# Altium footprint library TO_THD.PCBLIB: 47 footprints (part 1 of 3)
Each footprint in its own frame and in the unit in brackets; x right, y up, seen from the top. Pads: shape width x height; smd on the part's side, far side on the other; paste and mask are expansions set on the pad; w line width, h text height; cw(c..) or ccw(c..) is an arc to the next point about the centre after c.
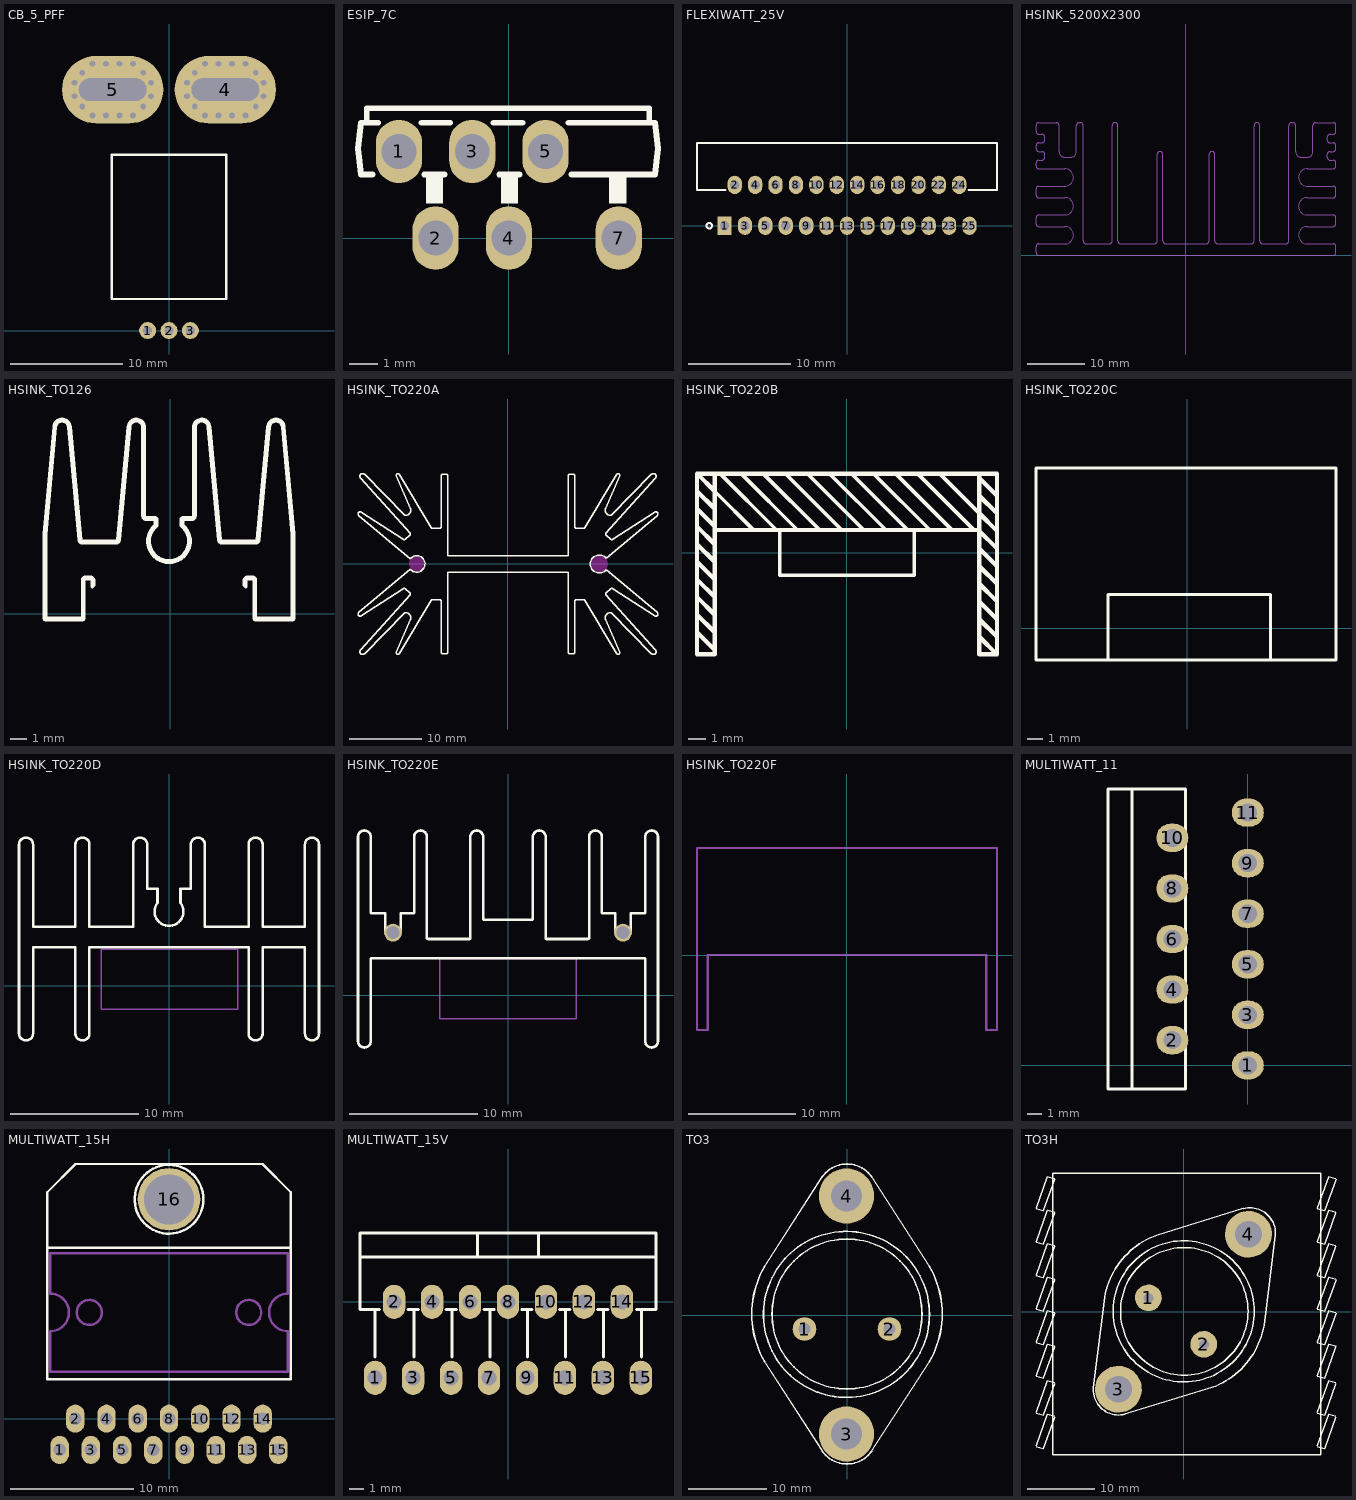
[diagram p0: the footprints below, top view; thin cyan lines are the x and y axes]

## CB_5_PFF [mm] "ACS752, ACS758"
height 7.5
pads (5):
  round 1.5 hole 0.8: 1(-1.9,0) 2(0,0) 3(1.9,0)
  oval 9x6 hole 2 slot 6 at 0 deg: 4(5,21.4) 5(-5,21.4)
via -2.3,19.9 diameter 0.8 hole 0.5
via -6.8,19.1 diameter 0.8 hole 0.5
via -3.2,19.1 diameter 0.8 hole 0.5
via -4.4,19.1 diameter 0.8 hole 0.5
via -5.6,19.1 diameter 0.8 hole 0.5
via -1.6,20.8 diameter 0.8 hole 0.5
via -8.4,20.8 diameter 0.8 hole 0.5
via -7.7,19.9 diameter 0.8 hole 0.5
via -7.7,22.9 diameter 0.8 hole 0.5
via -8.4,22 diameter 0.8 hole 0.5
via -1.6,22 diameter 0.8 hole 0.5
via -5.6,23.7 diameter 0.8 hole 0.5
via -4.4,23.7 diameter 0.8 hole 0.5
via -3.2,23.7 diameter 0.8 hole 0.5
via -6.8,23.7 diameter 0.8 hole 0.5
via -2.3,22.9 diameter 0.8 hole 0.5
via 7.7,22.9 diameter 0.8 hole 0.5
via 3.2,23.7 diameter 0.8 hole 0.5
via 6.8,23.7 diameter 0.8 hole 0.5
via 5.6,23.7 diameter 0.8 hole 0.5
via 4.4,23.7 diameter 0.8 hole 0.5
via 8.4,22 diameter 0.8 hole 0.5
via 1.6,22 diameter 0.8 hole 0.5
via 2.3,22.9 diameter 0.8 hole 0.5
via 2.3,19.9 diameter 0.8 hole 0.5
via 1.6,20.8 diameter 0.8 hole 0.5
via 8.4,20.8 diameter 0.8 hole 0.5
via 4.4,19.1 diameter 0.8 hole 0.5
via 5.6,19.1 diameter 0.8 hole 0.5
via 6.8,19.1 diameter 0.8 hole 0.5
via 3.2,19.1 diameter 0.8 hole 0.5
via 7.7,19.9 diameter 0.8 hole 0.5
TopOverlay:
  lines w0.2: -5.08,2.794 5.08,2.794 5.08,15.621 -5.08,15.621 -5.08,2.794
3D body "User Library-ACS758xCB-PFF.STEP": height 7, standoff -3.48, extent -7,-0.3 7,22.11

## ESIP_7C [mm] "eSIP-7C"
height 8.25
pads (6):
  oval 1.6x2.2 hole 1.2: 1(-3.81,3) 2(-2.54,0) 3(-1.27,3) 4(0,0) 5(1.27,3) 7(3.81,0)
TopOverlay:
  rectangle: -2.88,1.2 -2.28,2.232
  rectangle: -0.28,1.2 0.32,2.232
  rectangle: 3.47,1.2 4.07,2.232
  lines w0.2: -4.73,2.2 -5.13,2.2 -5.23,3.1 -5.13,4 -4.93,4 ; -4.53,4 -4.93,4 ; -3.03,4 -2.03,4 ; -2.93,2.2 -2.23,2.2 ; -0.53,4 0.47,4 ; -0.33,2.2 0.37,2.2 ; 2.07,4 4.87,4 ; 2.17,2.2 5.07,2.2 5.17,3.1 5.07,4 4.87,4 ; -4.93,4 -4.93,4.5 4.87,4.5 4.87,4
3D body "eSIP-7C.STEP": height 10.25, standoff -3.25, extent -5.13,-0.195 5.11,4.395

## FLEXIWATT_25V [mm] "FLEXIWATT25 straight pitch: 1mm 29.2x4.5mm"
height 22.5
pads (25):
  rect 1.4x1.8 hole 0.9: 1(-12,0)
  oval 1.4x1.8 hole 0.9: 2(-11,4) 3(-10,0) 4(-9,4) 5(-8,0) 6(-7,4) 7(-6,0) 8(-5,4) 9(-4,0) 10(-3,4) 11(-2,0) 12(-1,4) 13(0,0) 14(1,4) 15(2,0) 16(3,4) 17(4,0) 18(5,4) 19(6,0) 20(7,4) 21(8,0) 22(9,4) 23(10,0) 24(11,4) 25(12,0)
TopOverlay:
  circle w0.2: c-13.5,0 r0.27
  lines w0.2: -11.9,3.5 -14.7,3.5 -14.7,8.1 14.7,8.1 14.7,3.5 11.9,3.5
3D body "User Library-TDA7850-2.step": height 19.2, standoff -3.27, extent -14.615,-0.15 14.615,8.045

## HSINK_5200X2300 [mm]
Mechanical1:
  lines w0.2: -26,1.5 cw(c-25.5,1.5) -25.5,2 -21,2 ccw(c-21,3.5) -19.5,3.5 ccw(c-21,3.5) -21,5 -25.5,5 cw(c-25.5,5.5) -26,5.5 ; -26,1.6 -26,0.5 ccw(c-25.5,0.5) -25.5,0 25.5,0 ccw(c25.5,0.5) 26,0.5 26,1.6 ; -26,5.4 -26,6.5 cw(c-25.5,6.5) -25.5,7 -21,7 ccw(c-21,8.5) -19.5,8.5 ccw(c-21,8.5) -21,10 -25.5,10 cw(c-25.5,10.5) -26,10.5 ; -26,10.4 -26,11.5 cw(c-25.5,11.5) -25.5,12 -21,12 ccw(c-21,13.5) -19.5,13.5 ccw(c-21,13.5) -21,15 -25.5,15 cw(c-25.5,15.5) -26,15.5 -26,16 cw(c-25.5,16) -25.5,16.5 -25,16.5 ccw(c-25,17) -24.5,17 -24.5,17.5 ccw(c-25,17.5) -25,18 -25.5,18 cw(c-25.5,18.5) -26,18.5 -26,19 cw(c-25.5,19) -25.5,19.5 -25,19.5 ccw(c-25,20) -24.5,20 -24.5,20.5 ccw(c-25,20.5) -25,21 -25.5,21 cw(c-25.5,21.5) -26,21.5 -26,22.5 cw(c-25.5,22.5) -25.5,23 -22.5,23 cw(c-22.5,22.5) -22,22.5 -22,18 ccw(c-21,18) -21,17 -20,17 ccw(c-20,18) -19,18 -19,22.5 cw(c-18.5,22.5) -18.5,23 -18.3,23 cw(c-18.3,22.5) -17.8,22.5 -17.8,2.5 ccw(c-17.3,2.5) -17.3,2 -13.3,2 ccw(c-13.3,2.5) -12.8,2.5 -12.8,22.5 cw(c-12.3,22.5) -11.8,22.5 -11.8,2.5 ; 26,1.5 ccw(c25.5,1.5) 25.5,2 21,2 cw(c21,3.5) 19.5,3.5 cw(c21,3.5) 21,5 25.5,5 ccw(c25.5,5.5) 26,5.5 ; 26,5.4 26,6.5 ccw(c25.5,6.5) 25.5,7 21,7 cw(c21,8.5) 19.5,8.5 cw(c21,8.5) 21,10 25.5,10 ccw(c25.5,10.5) 26,10.5 ; 26,10.4 26,11.5 ccw(c25.5,11.5) 25.5,12 21,12 cw(c21,13.5) 19.5,13.5 cw(c21,13.5) 21,15 25.5,15 ccw(c25.5,15.5) 26,15.5 26,16 ccw(c25.5,16) 25.5,16.5 25,16.5 cw(c25,17) 24.5,17 24.5,17.5 cw(c25,17.5) 25,18 25.5,18 ccw(c25.5,18.5) 26,18.5 26,19 ccw(c25.5,19) 25.5,19.5 25,19.5 cw(c25,20) 24.5,20 24.5,20.5 cw(c25,20.5) 25,21 25.5,21 ccw(c25.5,21.5) 26,21.5 26,22.5 ccw(c25.5,22.5) 25.5,23 22.5,23 ccw(c22.5,22.5) 22,22.5 22,18 cw(c21,18) 21,17 20,17 cw(c20,18) 19,18 19,22.5 ccw(c18.5,22.5) 18.5,23 18.3,23 ccw(c18.3,22.5) 17.8,22.5 17.8,2.5 cw(c17.3,2.5) 17.3,2 13.3,2 cw(c13.3,2.5) 12.8,2.5 12.8,22.5 ccw(c12.3,22.5) 11.8,22.5 11.8,2.5 ; -11.8,2.5 ccw(c-11.3,2.5) -11.3,2 -5.5,2 ccw(c-5.5,2.5) -5,2.5 -5,17.5 cw(c-4.5,17.5) -4,17.5 -4,2.5 ; -11.8,2.5 -11.8,2.5 ; -4,2.5 ccw(c-3.5,2.5) -3.5,2 3.5,2 ccw(c3.5,2.5) 4,2.5 ; -4,2.5 -4,2.5 ; 4,2.5 4,17.5 cw(c4.5,17.5) 5,17.5 5,2.5 ccw(c5.5,2.5) 5.5,2 11.3,2 ccw(c11.3,2.5) 11.8,2.5 ; 4,2.5 4,2.5 ; 11.8,2.5 11.8,2.5
3D body: height 50, standoff 0, extent 0,0 26,23
3D body: height 50, standoff 0, extent -26,0 0,23

## HSINK_TO126 [mm] "HEATSINK TO-126"
TopOverlay:
  lines w0.2: -7.74,-0.268 ccw(c-7.64,-0.268) -7.64,-0.368 ; -7.74,-0.268 -7.74,4.882 ; -7.74,-0.268 -7.64,-0.268 ; -7.74,4.882 -7.64,4.877 ; -7.74,4.882 -7.133,11.438 ; -7.64,-0.368 -5.39,-0.368 ; -7.64,-0.368 -7.64,-0.268 ; -7.64,-0.268 -5.39,-0.268 ; -7.64,-0.268 -7.64,4.877 ; -7.64,4.877 -7.034,11.429 ; -7.133,11.438 cw(c-6.636,11.392) -6.138,11.438 ; -7.133,11.438 -7.034,11.429 ; -7.034,11.429 cw(c-6.636,11.392) -6.237,11.429 ; -6.237,11.429 -5.598,4.514 ; -6.237,11.429 -6.138,11.438 ; -6.138,11.438 -5.498,4.523 ; -5.598,4.514 ccw(c-5.399,4.532) -5.399,4.332 ; -5.598,4.514 -5.498,4.523 ; -5.498,4.523 ccw(c-5.399,4.532) -5.399,4.432 ; -5.399,4.332 -3.327,4.332 ; -5.399,4.332 -5.399,4.432 ; -5.399,4.432 -3.327,4.432 ; -5.39,-0.368 ccw(c-5.39,-0.268) -5.29,-0.268 ; -5.39,-0.368 -5.39,-0.268 ; -5.39,-0.268 -5.39,2.032 ; -5.39,-0.268 -5.29,-0.268 ; -5.39,2.032 cw(c-5.19,2.032) -5.19,2.232 ; -5.39,2.032 -5.29,2.032 ; -5.29,-0.268 -5.29,2.032 ; -5.29,2.032 cw(c-5.19,2.032) -5.19,2.132 ; -5.19,2.132 -4.89,2.132 ; -5.19,2.132 -5.19,2.232 ; -5.19,2.232 -4.89,2.232 ; -4.89,2.132 cw(c-4.89,2.032) -4.79,2.032 ; -4.89,2.132 -4.89,2.232 ; -4.89,2.232 cw(c-4.89,2.032) -4.69,2.032 ; -4.79,2.032 -4.79,1.632 -4.69,1.732 -4.69,2.032 ; -4.79,2.032 -4.69,2.032 ; -3.327,4.332 ccw(c-3.327,4.532) -3.128,4.514 ; -3.327,4.332 -3.327,4.432 ; -3.327,4.432 ccw(c-3.327,4.532) -3.227,4.523 ; -3.227,4.523 -2.588,11.438 ; -3.227,4.523 -3.128,4.514 ; -3.128,4.514 -2.488,11.429 ; -2.588,11.438 cw(c-2.09,11.392) -1.59,11.392 ; -2.588,11.438 -2.488,11.429 ; -2.488,11.429 cw(c-2.09,11.392) -1.69,11.392 ; -1.69,5.969 ccw(c-1.49,5.969) -1.49,5.769 ; -1.69,5.969 -1.69,11.392 ; -1.69,5.969 -1.59,5.969 ; -1.69,11.392 -1.59,11.392 ; -1.59,5.969 ccw(c-1.49,5.969) -1.49,5.869 ; -1.59,5.969 -1.59,11.392 ; -1.49,5.769 -0.94,5.769 ; -1.49,5.769 -1.49,5.869 ; -1.49,5.869 -0.94,5.869 ; -0.94,5.416 cw(c-3.386,0.065) -0.84,5.369 ; -0.94,5.416 ccw(c-0.09,4.432) 0.76,5.416 ; -0.94,5.416 -0.94,5.769 ; -0.94,5.769 -0.94,5.869 ; -0.94,5.769 -0.84,5.769 ; -0.94,5.869 cw(c-0.94,5.769) -0.84,5.769 ; -0.84,5.369 ccw(c-0.09,4.432) 0.66,5.369 ; -0.84,5.369 -0.84,5.769 ; 0.66,5.369 cw(c3.206,0.065) 0.76,5.416 ; 0.66,5.369 0.66,5.769 ; 0.66,5.769 cw(c0.76,5.769) 0.76,5.869 ; 0.66,5.769 0.76,5.769 ; 0.76,5.416 0.76,5.769 ; 0.76,5.769 1.31,5.769 ; 0.76,5.769 0.76,5.869 ; 0.76,5.869 1.31,5.869 ; 1.31,5.769 ccw(c1.31,5.969) 1.51,5.969 ; 1.31,5.769 1.31,5.869 ; 1.31,5.869 ccw(c1.31,5.969) 1.41,5.969 ; 1.41,5.969 1.41,11.392 ; 1.41,5.969 1.51,5.969 ; 1.41,11.392 cw(c1.91,11.392) 2.408,11.438 ; 1.41,11.392 1.51,11.392 ; 1.51,5.969 1.51,11.392 ; 1.51,11.392 cw(c1.91,11.392) 2.308,11.429 ; 2.308,11.429 2.948,4.514 ; 2.308,11.429 2.408,11.438 ; 2.408,11.438 3.047,4.523 ; 2.948,4.514 ccw(c3.147,4.532) 3.147,4.332 ; 2.948,4.514 3.047,4.523 ; 3.047,4.523 ccw(c3.147,4.532) 3.147,4.432 ; 3.147,4.332 5.219,4.332 ; 3.147,4.332 3.147,4.432 ; 3.147,4.432 5.219,4.432 ; 4.51,2.032 cw(c4.71,2.032) 4.71,2.232 ; 4.51,2.032 4.51,1.732 4.61,1.632 4.61,2.032 ; 4.51,2.032 4.61,2.032 ; 4.61,2.032 cw(c4.71,2.032) 4.71,2.132 ; 4.71,2.132 5.01,2.132 ; 4.71,2.132 4.71,2.232 ; 4.71,2.232 5.01,2.232 ; 5.01,2.132 cw(c5.01,2.032) 5.11,2.032 ; 5.01,2.132 5.01,2.232 ; 5.01,2.232 cw(c5.01,2.032) 5.21,2.032 ; 5.11,-0.268 ccw(c5.21,-0.268) 5.21,-0.368 ; 5.11,-0.268 5.11,2.032 ; 5.11,-0.268 5.21,-0.268 ; 5.11,2.032 5.21,2.032 ; 5.21,-0.368 7.46,-0.368 ; 5.21,-0.368 5.21,-0.268 ; 5.21,-0.268 7.46,-0.268 ; 5.21,-0.268 5.21,2.032 ; 5.219,4.332 ccw(c5.219,4.532) 5.418,4.514 ; 5.219,4.332 5.219,4.432 ; 5.219,4.432 ccw(c5.219,4.532) 5.318,4.523 ; 5.318,4.523 5.958,11.438 ; 5.318,4.523 5.418,4.514 ; 5.418,4.514 6.057,11.429 ; 5.958,11.438 cw(c6.455,11.392) 6.953,11.438 ; 5.958,11.438 6.057,11.429 ; 6.057,11.429 cw(c6.455,11.392) 6.854,11.429 ; 6.854,11.429 7.46,4.877 ; 6.854,11.429 6.953,11.438 ; 6.953,11.438 7.56,4.882 ; 7.46,-0.368 ccw(c7.46,-0.268) 7.56,-0.268 ; 7.46,-0.368 7.46,-0.268 ; 7.46,-0.268 7.56,-0.268 ; 7.46,-0.268 7.46,4.877 ; 7.46,4.877 7.56,4.882 ; 7.56,-0.268 7.56,4.882
3D body "User Library-Heatsink-57AS.STEP": height 26.5, standoff 1.5, extent -7.68,-0.381 7.62,11.878

## HSINK_TO220A [mm] "HEATSINK, TO-220,"
TopOverlay:
  lines w0.2: -13.589,-0.762 -20.735,-6.764 ccw(c-20.543,-6.994) -20.38,-7.246 -14.529,-3.45 cw(c-14.42,-3.617) -14.292,-3.464 -13.617,-4.027 cw(c-13.745,-4.181) -13.596,-4.314 -20.482,-11.986 ccw(c-20.199,-12.24) -19.928,-12.507 -14.354,-6.827 cw(c-14.189,-7.519) -13.535,-7.802 -15.485,-12.313 ccw(c-15.302,-12.392) -15.13,-12.495 -10.676,-5.096 cw(c-10.505,-5.199) -10.505,-4.999 -9.469,-4.999 cw(c-9.469,-5.199) -9.269,-5.199 -9.269,-12.302 ccw(c-9.069,-12.302) -9.069,-12.502 -8.531,-12.502 ccw(c-8.531,-12.302) -8.331,-12.302 -8.331,-1.174 8.405,-1.174 8.405,-12.302 ccw(c8.605,-12.302) 8.605,-12.502 9.143,-12.502 ccw(c9.143,-12.302) 9.343,-12.302 9.343,-5.199 cw(c9.543,-5.199) 9.543,-4.999 10.579,-4.999 cw(c10.579,-5.199) 10.75,-5.096 15.204,-12.495 ccw(c15.376,-12.392) 15.559,-12.313 13.609,-7.802 cw(c14.263,-7.519) 14.428,-6.827 20.002,-12.507 ccw(c20.273,-12.24) 20.556,-11.986 13.67,-4.314 cw(c13.819,-4.181) 13.691,-4.027 14.366,-3.464 cw(c14.494,-3.617) 14.603,-3.45 20.454,-7.246 ccw(c20.617,-6.994) 20.809,-6.764 13.697,-0.83 cw(c12.737,-0.029) 13.697,0.772 20.809,6.706 ccw(c20.617,6.936) 20.454,7.188 14.603,3.392 cw(c14.494,3.559) 14.366,3.406 13.691,3.969 cw(c13.819,4.123) 13.67,4.256 20.556,11.928 ccw(c20.273,12.182) 20.002,12.449 14.428,6.769 cw(c14.263,7.461) 13.609,7.744 15.559,12.255 ccw(c15.376,12.334) 15.204,12.437 10.75,5.038 cw(c10.579,5.141) 10.579,4.941 9.543,4.941 cw(c9.543,5.141) 9.343,5.141 9.343,12.244 ccw(c9.143,12.244) 9.143,12.444 8.605,12.444 ccw(c8.605,12.244) 8.405,12.244 8.405,1.116 -8.331,1.116 -8.331,12.244 ccw(c-8.531,12.244) -8.531,12.444 -9.069,12.444 ccw(c-9.069,12.244) -9.269,12.244 -9.269,5.141 cw(c-9.469,5.141) -9.469,4.941 -10.505,4.941 cw(c-10.505,5.141) -10.676,5.038 -15.13,12.437 ccw(c-15.302,12.334) -15.485,12.255 -13.535,7.744 cw(c-14.189,7.461) -14.354,6.769 -19.928,12.449 ccw(c-20.199,12.182) -20.482,11.928 -13.596,4.256 cw(c-13.745,4.123) -13.617,3.969 -14.292,3.406 cw(c-14.42,3.559) -14.529,3.392 -20.38,7.188 ccw(c-20.543,6.936) -20.735,6.706 -13.536,0.699 ; -13.565,-0.743 ccw(c-12.663,-0.029) -13.547,0.706
KeepOutLayer:
  board cut-out: -11.663,-0.029 -11.659,0.068 -11.688,0.259 -11.754,0.44 -11.854,0.606 -11.985,0.748 -12.141,0.863 -12.316,0.945 -12.503,0.991 -12.6,0.995 -12.8,0.995 -12.893,0.99 -13.075,0.945 -13.243,0.865 -13.393,0.753 -13.519,0.615 -13.615,0.454 -13.677,0.278 -13.705,0.093 -13.7,0 -13.7,-0.098 -13.662,-0.292 -13.586,-0.474 -13.477,-0.637 -13.337,-0.777 -13.174,-0.886 -12.992,-0.962 -12.798,-1 -12.7,-1 -12.6,-1 -12.508,-1 -12.327,-0.964 -12.156,-0.893 -12.003,-0.791 -11.872,-0.66 -11.77,-0.507 -11.699,-0.336 -11.663,-0.155 -11.663,-0.063
  board cut-out: 13.887,-0.029 13.889,0.08 13.851,0.295 13.771,0.498 13.653,0.682 13.502,0.839 13.322,0.964 13.122,1.051 12.909,1.098 12.8,1.1 12.6,1.1 12.497,1.092 12.297,1.037 12.112,0.943 11.948,0.815 11.813,0.658 11.711,0.477 11.647,0.28 11.622,0.075 11.629,-0.029 11.629,-0.14 11.673,-0.358 11.758,-0.564 11.881,-0.749 12.039,-0.906 12.223,-1.029 12.429,-1.114 12.647,-1.158 12.758,-1.158 12.8,-1.158 12.909,-1.156 13.122,-1.109 13.322,-1.022 13.502,-0.897 13.653,-0.74 13.771,-0.556 13.851,-0.353 13.889,-0.138
KeepOutLayer:
  circle w0.013: c12.737,-0.029 r1.15
  circle w0.013: c-12.663,-0.029 r1
3D body "User Library-TO220_Heatsink.STEP": height 50.8, standoff -3.5, extent -20.88,-12.592 20.878,12.592

## HSINK_TO220B [mm] "HEATSINK, TO-220,"
TopOverlay:
  lines w0.203: -7.5,1.3 7.45,1.3 ; -7.5,3.5 -5.3,1.3 ; -7.2,4.5 -4.038,1.338 ; -5.95,4.45 -2.812,1.312 ; -4.7,4.45 -1.575,1.325 ; -3.81,1.27 -3.81,-1.27 3.81,-1.27 3.81,1.27 ; -3.45,4.45 -0.3,1.3 ; -2.2,4.45 0.937,1.313 ; -0.95,4.45 2.187,1.313 ; 0.3,4.45 3.45,1.3 ; 1.55,4.45 4.687,1.313 ; 2.8,4.45 5.95,1.3 ; 4.05,4.45 7.2,1.3 ; 5.3,4.45 8.5,1.25
  lines w0.254: -8.5,-4.5 -7.5,-5.5 ; -8.5,-3.5 -7.5,-4.5 ; -8.5,-2.5 -7.5,-3.5 ; -8.5,-1.5 -7.5,-2.5 ; -8.5,-0.5 -7.5,-1.5 ; -8.5,0.5 -7.5,-0.5 ; -8.5,1.5 -7.5,0.5 ; -8.5,2.5 -7.5,1.5 ; -8.5,3.5 -7.5,2.5 ; -7.5,4.3 -7.5,4.5 ; -7.25,4.5 -7.2,4.5 -7.5,4.5 ; 7.45,1.3 7.5,1.25 8.5,0.25 ; 7.5,-4.75 8.5,-5.75 ; 7.5,-3.75 8.5,-4.75 ; 7.5,-2.75 8.5,-3.75 ; 7.5,-1.75 8.5,-2.75 ; 7.5,-0.75 8.5,-1.75 ; 7.5,0.25 8.5,-0.75 ; 7.5,2.25 8.5,1.25 ; 7.5,3.25 8.5,2.25 ; 8.5,3.25 7.5,4.25 ; -8.5,4.5 -7.5,4.5 ; -8.5,4.5 -8.5,-5.75 -7.5,-5.75 -7.5,4.5 ; -8.5,4.5 -7.5,3.5 ; -7.5,-5.5 -7.5,-5.5 ; -7.5,3.5 -7.5,3.5 ; -7.5,4.5 7.5,4.5 ; 7.5,4.25 7.5,4.25 ; 7.5,4.5 8.5,4.5 8.5,-5.75 ; 7.5,4.5 7.5,-5.75 8.5,-5.75
3D body "User Library-Package T0-220AB With Heatsing Vertical Mount-1.STEP": height 20.07, standoff -5.86, extent -8.5,-5.775 8.5,4.445

## HSINK_TO220C [mm] "HEATSINK, TO-220,"
TopOverlay:
  lines w0.2: -9.86,-2.05 -9.86,10.45 9.69,10.45 9.69,-2.05 -9.86,-2.05 ; -5.173,-2.05 5.427,-2.05 5.427,2.2 -5.173,2.2 -5.173,-2.05
3D body: height 25, standoff 0, extent 1.94,4.2 3.94,10.2
3D body: height 25, standoff 0, extent -4.81,4.2 -2.81,10.2
3D body: height 25, standoff 0, extent -9.56,-0.8 -7.56,10.2
3D body: height 25, standoff 0, extent 7.44,-0.8 9.44,10.2
3D body: height 25, standoff 0, extent -9.56,2.2 9.44,4.2
3D body: height 19, standoff 13, extent -4.81,1.2 4.94,2.2
3D body: height 17.7, standoff 14.3, extent -1.767,1.15 1.633,4.35

## HSINK_TO220D [mm] "HEATSINK, TO-220, Epoxy meets UL94"
height 17
TopOverlay:
  lines w0.2: -6.029,2.996 5.971,2.996 ; -11.779,-3.754 ccw(c-11.229,-3.754) -10.679,-3.754 -10.679,2.996 -7.359,2.996 -7.359,-3.754 ccw(c-6.809,-3.754) -6.259,-3.754 -6.259,2.996 6.201,2.996 6.201,-3.754 ccw(c6.751,-3.754) 7.301,-3.754 7.301,2.996 10.621,2.996 10.621,-3.754 ccw(c11.171,-3.754) 11.721,-3.754 11.721,11.046 ccw(c11.171,11.046) 10.621,11.046 10.621,4.596 7.301,4.596 7.301,11.046 ccw(c6.751,11.046) 6.201,11.046 6.201,4.596 2.781,4.596 2.781,11.046 ccw(c2.231,11.046) 1.681,11.046 1.681,7.596 0.871,7.596 0.871,6.471 cw(c-0.029,5.796) -0.929,6.471 -0.929,7.596 -1.739,7.596 -1.739,11.046 ccw(c-2.289,11.046) -2.839,11.046 -2.839,4.596 -6.259,4.596 -6.259,11.046 ccw(c-6.809,11.046) -7.359,11.046 -7.359,4.596 -10.679,4.596 -10.679,11.046 ccw(c-11.229,11.046) -11.779,11.046 -11.779,-3.754
Mechanical13:
  lines w0.1: -5.35,-1.85 -5.35,2.85 5.35,2.85 5.35,-1.85 -5.35,-1.85
3D body "User Library-to-220_heatsink_asm.STEP": height 25, standoff -5.48, extent -11.75,-4.6 11.75,11.3

## HSINK_TO220E [mm] "HEATSINK, TO-220, Epoxy meets UL94"
height 17
pads (2):
  round 1.4 / inner round 1.4 / far side round 2.4 hole 1 unplated: ""(-9,4.9) ""(9,4.9)
TopOverlay:
  circle w0.2: c-9,4.9 r0.5
  circle w0.2: c9,4.9 r0.5
  lines w0.2: -11.75,-3.6 ccw(c-11.25,-3.6) -11.25,-4.1 ccw(c-11.25,-3.6) -10.75,-3.6 -10.75,2.8 cw(c-10.65,2.8) -10.65,2.9 10.65,2.9 cw(c10.65,2.8) 10.75,2.8 10.75,-3.6 ccw(c11.25,-3.6) 11.25,-4.1 ccw(c11.25,-3.6) 11.75,-3.6 11.75,12.4 ccw(c11.25,12.4) 11.25,12.9 ccw(c11.25,12.4) 10.75,12.4 10.75,6.5 cw(c10.65,6.5) 10.65,6.4 9.6,6.4 9.6,5 cw(c9,5) 9,4.4 cw(c9,5) 8.4,5 8.4,6.4 7.45,6.4 cw(c7.45,6.5) 7.35,6.5 7.35,12.4 ccw(c6.85,12.4) 6.85,12.9 ccw(c6.85,12.4) 6.35,12.4 6.35,4.5 cw(c6.25,4.5) 6.25,4.4 3.05,4.4 cw(c3.05,4.5) 2.95,4.5 2.95,12.4 ccw(c2.45,12.4) 2.45,12.9 ccw(c2.45,12.4) 1.95,12.4 1.95,6 cw(c1.85,6) 1.85,5.9 -1.85,5.9 cw(c-1.85,6) -1.95,6 -1.95,12.4 ccw(c-2.45,12.4) -2.45,12.9 ccw(c-2.45,12.4) -2.95,12.4 -2.95,4.5 cw(c-3.05,4.5) -3.05,4.4 -6.25,4.4 cw(c-6.25,4.5) -6.35,4.5 -6.35,12.4 ccw(c-6.85,12.4) -6.85,12.9 ccw(c-6.85,12.4) -7.35,12.4 -7.35,6.5 cw(c-7.45,6.5) -7.45,6.4 -8.4,6.4 -8.4,5 cw(c-9,5) -9,4.4 cw(c-9,5) -9.6,5 -9.6,6.4 -10.65,6.4 cw(c-10.65,6.5) -10.75,6.5 -10.75,12.4 ccw(c-11.25,12.4) -11.25,12.9 ccw(c-11.25,12.4) -11.75,12.4 -11.75,-3.6
Mechanical13:
  lines w0.1: -5.35,-1.85 -5.35,2.85 5.35,2.85 5.35,-1.85 -5.35,-1.85
3D body "User Library-YA25.STEP": height 25, standoff -4, extent -11.75,-4.078 11.75,12.922
3D body "SW3DPS-TO-220HS-DEFAULT.STEP": height 21.04, standoff -1.31, extent -5.08,-1.651 5.08,2.921

## HSINK_TO220F [mm]
Mechanical1:
  lines w0.2: -14,-7 -14,0 -14,10 13,10 14,10 14,0 14,-7 13,-7 13,0 -13,0 -13,-7 -14,-7
3D body: height 50, standoff 0, extent -14,-7 14,10

## MULTIWATT_11 [mil] "Use For L6203"
height 760
pads (11):
  oval 85x75 hole 48: 1(0,0) 2(-200,67) 3(0,134) 4(-200,201) 5(0,268) 6(-200,335) 7(0,402) 8(-200,469) 9(0,536) 10(-200,603) 11(0,670)
TopOverlay:
  lines w7.87: -317,732.5 -315,732.5 ; -307,-62.5 -307,732.5 ; -370,-62.5 -165,-62.5 -165,732.5 -370,732.5 -370,-62.5
3D body: height 760, standoff 62, extent -368,-61 -307,731
3D body: height 42, standoff 20, extent -254,-18 11,19
3D body: height 62, standoff 42, extent -254,-18 -232,19
3D body: height 42, standoff 20, extent -254,116 11,153
3D body: height 62, standoff 42, extent -254,116 -232,153
3D body: height 42, standoff 20, extent -254,250 11,287
3D body: height 62, standoff 42, extent -254,250 -232,287
3D body: height 42, standoff 20, extent -254,384 11,421
3D body: height 62, standoff 42, extent -254,384 -232,421
3D body: height 42, standoff 20, extent -254,518 11,555
3D body: height 62, standoff 42, extent -254,518 -232,555
3D body: height 62, standoff 42, extent -254,652 -232,689
3D body: height 42, standoff 20, extent -254,652 11,689
3D body: height 42, standoff 20, extent -254,49 -189,86
3D body: height 62, standoff 42, extent -254,49 -232,86
3D body: height 42, standoff 20, extent -254,183 -189,220
3D body: height 62, standoff 42, extent -254,183 -232,220
3D body: height 42, standoff 20, extent -254,317 -189,354
3D body: height 62, standoff 42, extent -254,317 -232,354
3D body: height 42, standoff 20, extent -254,451 -189,488
3D body: height 62, standoff 42, extent -254,451 -232,488
3D body: height 62, standoff 42, extent -254,585 -232,622
3D body: height 42, standoff 20, extent -254,585 -189,622
3D body: height 20, standoff -40, extent -11,-18 11,19
3D body: height 20, standoff -40, extent -211,49 -189,86
3D body: height 20, standoff -40, extent -11,116 11,153
3D body: height 20, standoff -40, extent -211,183 -189,220
3D body: height 20, standoff -40, extent -11,250 11,287
3D body: height 20, standoff -40, extent -211,317 -189,354
3D body: height 20, standoff -40, extent -11,384 11,421
3D body: height 20, standoff -40, extent -211,451 -189,488
3D body: height 20, standoff -40, extent -11,518 11,555
3D body: height 20, standoff -40, extent -211,585 -189,622
3D body: height 20, standoff -40, extent -11,652 11,689
3D body: height 490, standoff 60, extent -370,-62.5 -165,732.5

## MULTIWATT_15H [mil] "L298 bended MULTIWATT15 pitch: 1.27mm 20x5mm"
pads (16):
  oval 59.06x90 hole 40: 1(-350,-100) 2(-300,0) 3(-250,-100) 4(-200,0) 5(-150,-100) 6(-100,0) 7(-50,-100) 8(0,0) 9(50,-100) 10(100,0) 11(150,-100) 12(200,0) 13(250,-100) 14(300,0) 15(350,-100)
  round 200 hole 160: 16(0,702.13)
TopOverlay:
  circle w7.87: c0,702.13 r110
  lines w7.87: -389.76,547.24 389.76,547.24 ; -389.76,125.98 -389.76,724.41 -299.21,814.96 299.21,814.96 389.76,724.41 389.76,125.98 -389.76,125.98
Mechanical1:
  circle w7.87: c255,340 r40
  circle w7.87: c-255,340 r40
  lines w7.87: -380,150 -380,280 ccw(c-380,340) -380,400 -380,530 380,530 380,400 ccw(c380,340) 380,280 380,150 -380,150
3D body "User Library-Multiwatt15H.step": height 200.79, standoff -55.12, extent -385.83,-118.11 385.83,811.02

## MULTIWATT_15V [mil] "L298 straight MULTIWATT15 pitch: 1.27mm 20x5mm"
pads (15):
  oval 59.06x90 hole 40: 1(-350,-200) 2(-300,0) 3(-250,-200) 4(-200,0) 5(-150,-200) 6(-100,0) 7(-50,-200) 8(0,0) 9(50,-200) 10(100,0) 11(150,-200) 12(200,0) 13(250,-200) 14(300,0) 15(350,-200)
TopOverlay:
  lines w7.87: -389.76,118.11 389.76,118.11 ; -350.39,-145.67 -350.39,-20 ; -338.58,-20 -389.76,-20 -389.76,181.1 389.76,181.1 389.76,-20 338.58,-20 ; -263.78,-19.68 -236.22,-19.68 ; -248.03,-145.67 -248.03,-19.68 ; -163.78,-19.68 -136.22,-19.68 ; -148.03,-145.67 -148.03,-19.68 ; -80,120 -80,180 ; -63.78,-19.68 -36.22,-19.68 ; -48.03,-145.67 -48.03,-19.68 ; 36.22,-19.68 63.78,-19.68 ; 51.97,-145.67 51.97,-19.68 ; 80,120 80,180 ; 136.22,-19.68 163.78,-19.68 ; 151.97,-145.67 151.97,-19.68 ; 236.22,-19.68 263.78,-19.68 ; 251.97,-145.67 251.97,-19.68 ; 351.97,-145.67 351.97,-19.68
3D body "User Library-Multiwatt15V.STEP": height 818.9, standoff -59.06, extent -385.83,-212.6 385.83,176.77

## TO3 [mm] "TO-3, TO3, TO-204A, 2N3055"
pads (4):
  round 3 hole 1.5: 1(-5.397,-1.778) 2(5.397,-1.778)
  round 7 hole 4: 3(-0.064,-15.113) 4(-0.064,15.113)
TopOverlay:
  circle w0.2: c-0.064,0.076 r10.541
  circle w0.2: c0,0.127 r9.525
  lines w0.2: -10.477,-5.905 -3.086,-17.361 ; -10.477,6.159 -3.137,17.564 ; -10.47,-5.918 cw(c0,0.127) -12.09,0.127 cw(c0,0.127) -10.47,6.172 ; -3.121,-17.298 ccw(c0,-15.113) 0,-18.923 ccw(c0,-15.113) 3.121,-17.298 ; -3.121,17.552 cw(c0,15.367) 0,19.177 cw(c0,15.367) 3.121,17.552 ; 2.984,-17.462 10.477,-5.905 ; 3.111,17.564 10.477,6.159 ; 10.47,-5.918 ccw(c0,0.127) 12.09,0.127 ccw(c0,0.127) 10.47,6.172
3D body "User Library-TO-3_Short.STEP": height 8.5, standoff -3, extent -13.089,-19.8 13.089,19.79

## TO3H [mm] "TO-3 WITH HEATSINK"
pads (4):
  round 4 hole 1.5: 1(-5.278,2.107) 2(2.992,-4.831)
  round 7 hole 4: 3(-9.763,-11.536) 4(9.666,11.618)
TopOverlay:
  circle w0.2: c0,0.099 r10.541
  circle w0.2: c0.082,0.097 r9.525
  lines w0.2: -13.523,-11.316 -11.822,2.211 ; -13.51,-11.245 ccw(c-9.714,-11.577) -12.163,-14.496 ccw(c-9.714,-11.577) -8.728,-15.257 ; -11.825,2.197 cw(c0.082,0.097) -9.18,7.869 cw(c0.082,0.097) -4.053,11.458 ; -8.938,-15.295 4.23,-11.259 ; -4.067,11.453 8.887,15.471 ; 4.217,-11.264 ccw(c0.082,0.097) 9.343,-7.674 ccw(c0.082,0.097) 11.988,-2.002 ; 8.892,15.452 cw(c9.878,11.772) 12.327,14.69 cw(c9.878,11.772) 13.673,11.44 ; 11.985,-2.016 13.674,11.455
  lines w0.203: -22.064,-20.101 -20.964,-20.401 -19.262,-15.702 ; -22.064,-20.002 -20.362,-15.3 -19.262,-15.603 ; -22.064,-15.102 -20.964,-15.402 -19.262,-10.7 ; -22.064,-15.001 -20.362,-10.302 -19.262,-10.601 ; -22.064,-9.601 -20.964,-9.9 -19.262,-5.201 ; -22.064,-9.502 -20.362,-4.803 -19.262,-5.102 ; -22.064,-4.602 -20.964,-4.902 -19.262,-0.203 ; -22.064,-4.5 -20.362,0.199 -19.262,-0.101 ; -22.064,0.399 -20.964,0.1 -19.262,4.799 ; -22.064,0.498 -20.362,5.197 -19.262,4.898 ; -22.064,5.398 -20.964,5.098 -19.262,9.797 ; -22.064,5.5 -20.362,10.199 -19.262,9.899 ; -22.064,10.399 -20.964,10.1 -19.262,14.799 ; -22.064,10.498 -20.362,15.197 -19.262,14.898 ; -22.064,15.398 -20.964,15.098 -19.262,19.797 ; -22.064,15.5 -20.362,20.199 -19.262,19.899 ; 19.938,-20.101 21.038,-20.401 22.737,-15.702 ; 19.938,-20.002 21.637,-15.3 22.737,-15.603 ; 19.938,-15.102 21.038,-15.402 22.737,-10.7 ; 19.938,-15.001 21.637,-10.302 22.737,-10.601 ; 19.938,-9.601 21.038,-9.9 22.737,-5.201 ; 19.938,-9.501 21.637,-4.803 22.737,-5.102 ; 19.938,-4.602 21.038,-4.902 22.737,-0.203 ; 19.938,-4.5 21.637,0.199 22.737,-0.101 ; 19.938,0.399 21.038,0.1 22.737,4.799 ; 19.938,0.498 21.637,5.197 22.737,4.898 ; 19.938,5.398 21.038,5.098 22.737,9.797 ; 19.938,5.5 21.637,10.199 22.737,9.899 ; 19.938,10.399 21.038,10.1 22.737,14.799 ; 19.938,10.498 21.637,15.197 22.737,14.898 ; 19.938,15.398 21.038,15.098 22.737,19.797 ; 19.938,15.5 21.637,20.199 22.737,19.899 ; -19.564,-21.302 -19.564,20.699 20.438,20.699 20.438,-21.302 -19.564,-21.302
3D body "SW3dPS-Heat Sink.STEP": height 31.65, standoff 1, extent -18.572,-21.195 19.428,20.805
3D body "User Library-TO-3_Long.STEP": height 10.5, standoff -10, extent -22.689,-23.497 22.813,23.658